# Altium footprint library L717SDCH37POL2.PcbLib: 1 footprints
Each footprint in its own frame and in the unit in brackets; x right, y up, seen from the top. Pads: shape width x height; smd on the part's side, far side on the other; paste and mask are expansions set on the pad; w line width, h text height; cw(c..) or ccw(c..) is an arc to the next point about the centre after c.
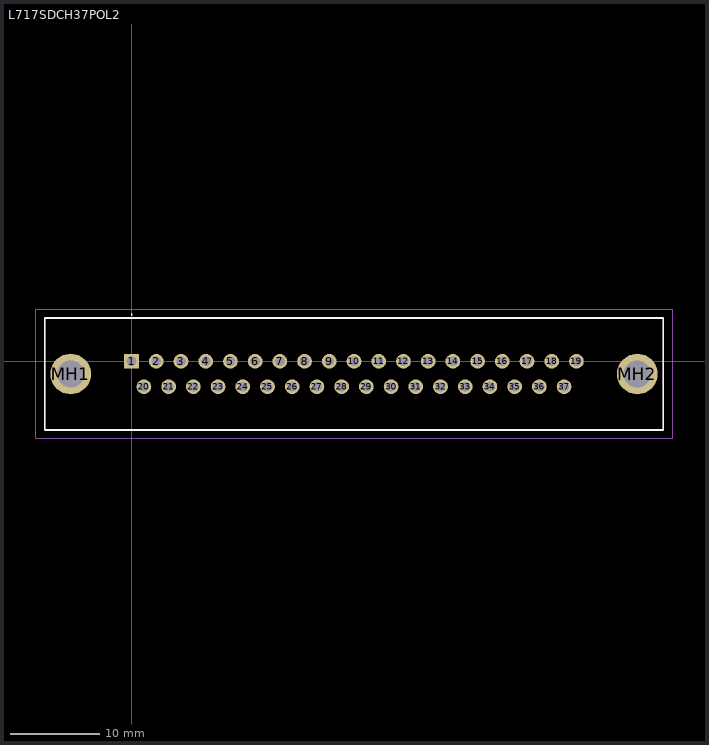
[diagram p0: the footprint, top view; thin cyan lines are the x and y axes]

## L717SDCH37POL2 [mm]
pads (39):
  rect 1.65x1.65 hole 1.1: 1(0,0)
  round 1.65 hole 1.1: 2(2.77,0) 3(5.54,0) 4(8.31,0) 5(11.08,0) 6(13.85,0) 7(16.62,0) 8(19.39,0) 9(22.16,0) 10(24.93,0) 11(27.7,0) 12(30.47,0) 13(33.24,0) 14(36.01,0) 15(38.78,0) 16(41.55,0) 17(44.32,0) 18(47.09,0) 19(49.86,0) 20(1.385,-2.84) 21(4.155,-2.84) 22(6.925,-2.84) 23(9.695,-2.84) 24(12.465,-2.84) 25(15.235,-2.84) 26(18.005,-2.84) 27(20.775,-2.84) 28(23.545,-2.84) 29(26.315,-2.84) 30(29.085,-2.84) 31(31.855,-2.84) 32(34.625,-2.84) 33(37.395,-2.84) 34(40.165,-2.84) 35(42.935,-2.84) 36(45.705,-2.84) 37(48.475,-2.84)
  round 4.575 hole 3.05: MH1(-6.82,-1.42) MH2(56.68,-1.42)
Top Overlay:
  lines w0.1: 0,5.2 cw(c0,5.25) 0,5.3 ; 0,5.2 0,5.2 ; 0,5.2 ccw(c0,5.25) 0,5.3 ; 0,5.3 0,5.3
  lines w0.2: -9.73,-7.695 59.59,-7.695 59.59,4.855 -9.73,4.855 -9.73,-7.695
Mechanical 15:
  lines w0.1: -9.73,-7.695 59.59,-7.695 59.59,4.855 -9.73,4.855 -9.73,-7.695
Mechanical 20:
  lines w0.1: -10.73,-8.695 60.59,-8.695 60.59,5.855 -10.73,5.855 -10.73,-8.695